# EAGLE library part TCA6424A (library netpune)
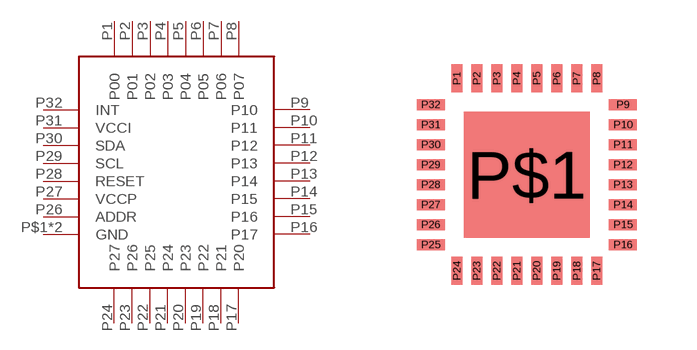
[diagram p0: symbol with the pads of PQFN32; footprint PQFN32]

Designator prefix -

## TCA6424A  [PQFN32]
P1  P00
P2  P01
P3  P02
P4  P03
P5  P04
P6  P05
P7  P06
P8  P07
P9  P10
P10  P11
P11  P12
P12  P13
P13  P14
P14  P15
P15  P16
P16  P17
P17  P20
P18  P21
P19  P22
P20  P23
P21  P24
P22  P25
P23  P26
P24  P27
P25  GND
P26  ADDR
P27  VCCP
P28  RESET
P29  SCL
P30  SDA
P31  VCCI
P32  INT
P$1  GND

## Footprint PQFN32 (pad centres in mm)
smd 0.28 x 0.7: P1 -1.75,2.404; P2 -1.251,2.404; P3 -0.749,2.404; P4 -0.25,2.404; P5 0.25,2.404; P6 0.751,2.404; P7 1.249,2.404; P8 1.75,2.404; P17 1.748,-2.405; P18 1.251,-2.405; P19 0.75,-2.405; P20 0.249,-2.405; P21 -0.249,-2.405; P22 -0.75,-2.405; P23 -1.251,-2.405; P24 -1.748,-2.405
smd 0.7 x 0.28: P9 2.405,1.751; P10 2.405,1.249; P11 2.405,0.751; P12 2.405,0.249; P13 2.405,-0.249; P14 2.405,-0.751; P15 2.405,-1.249; P16 2.405,-1.751; P25 -2.405,-1.751; P26 -2.405,-1.249; P27 -2.405,-0.751; P28 -2.405,-0.249; P29 -2.405,0.249; P30 -2.405,0.751; P31 -2.405,1.249; P32 -2.405,1.751
smd 3.15 x 3.15: P$1 0,0